# Altium schematic symbol library SCH - FET - PMOS.SCHLIB: 1 symbol
Pins are listed as number, name and electrical type; pins without a type are passive.

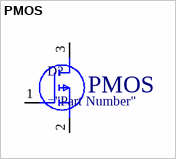
[diagram p0: symbol PMOS]

## PMOS
designator D?
PMOS
pins: 1 G, 2 S, 3 D